# Altium footprint library QFN50P900X900X100_HS-65N.PcbLib: 1 footprints
Each footprint in its own frame and in the unit in brackets; x right, y up, seen from the top. Pads: shape width x height; smd on the part's side, far side on the other; paste and mask are expansions set on the pad; w line width, h text height; cw(c..) or ccw(c..) is an arc to the next point about the centre after c.
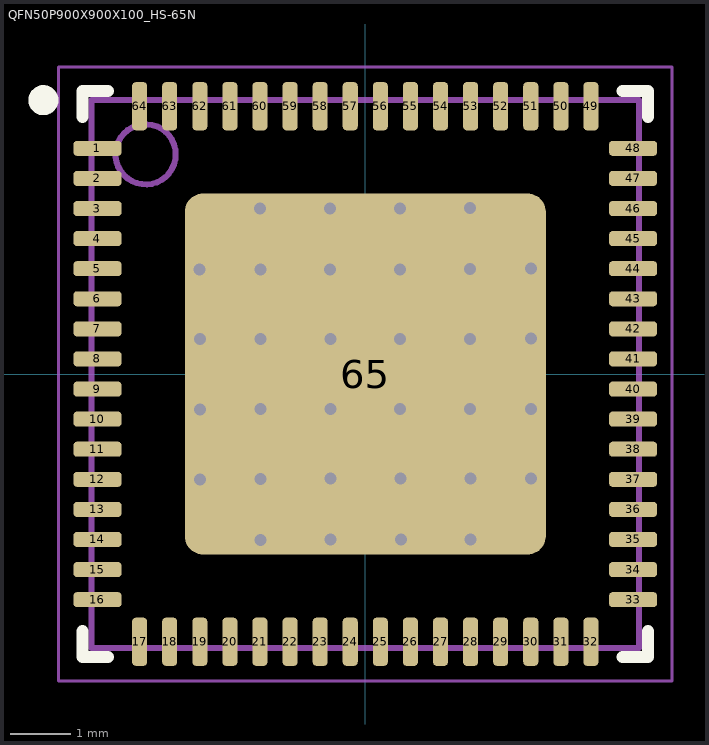
[diagram p0: the footprint, top view; thin cyan lines are the x and y axes]

## QFN50P900X900X100_HS-65N [mm] "QFN, 64-Leads, Body 9,00x9,00mm, Pitch 0,50mm, Thermal Pad 7,74x2,20mm, IPC Medium Density"
height 1
pads (65):
  rrect50% 0.8x0.25 smd paste-0.02 mask+0.03: 1(-4.45,3.75) 2(-4.45,3.25) 3(-4.45,2.75) 4(-4.45,2.25) 5(-4.45,1.75) 6(-4.45,1.25) 7(-4.45,0.75) 8(-4.45,0.25) 9(-4.45,-0.25) 10(-4.45,-0.75) 11(-4.45,-1.25) 12(-4.45,-1.75) 13(-4.45,-2.25) 14(-4.45,-2.75) 15(-4.45,-3.25) 16(-4.45,-3.75) 33(4.45,-3.75) 34(4.45,-3.25) 35(4.45,-2.75) 36(4.45,-2.25) 37(4.45,-1.75) 38(4.45,-1.25) 39(4.45,-0.75) 40(4.45,-0.25) 41(4.45,0.25) 42(4.45,0.75) 43(4.45,1.25) 44(4.45,1.75) 45(4.45,2.25) 46(4.45,2.75) 47(4.45,3.25) 48(4.45,3.75)
  rrect50% 0.25x0.8 smd paste-0.02 mask+0.03: 17(-3.75,-4.45) 18(-3.25,-4.45) 19(-2.75,-4.45) 20(-2.25,-4.45) 21(-1.75,-4.45) 22(-1.25,-4.45) 23(-0.75,-4.45) 24(-0.25,-4.45) 25(0.25,-4.45) 26(0.75,-4.45) 27(1.25,-4.45) 28(1.75,-4.45) 29(2.25,-4.45) 30(2.75,-4.45) 31(3.25,-4.45) 32(3.75,-4.45) 49(3.75,4.45) 50(3.25,4.45) 51(2.75,4.45) 52(2.25,4.45) 53(1.75,4.45) 54(1.25,4.45) 55(0.75,4.45) 56(0.25,4.45) 57(-0.25,4.45) 58(-0.75,4.45) 59(-1.25,4.45) 60(-1.75,4.45) 61(-2.25,4.45) 62(-2.75,4.45) 63(-3.25,4.45) 64(-3.75,4.45)
  rrect10% 6x6 smd paste-10 mask+0.03: 65(0,0)
via -1.75,2.75 diameter 0.4 hole 0.2
via -0.59,2.75 diameter 0.4 hole 0.2
via -2.755,1.74 diameter 0.4 hole 0.2
via -1.745,1.74 diameter 0.4 hole 0.2
via -0.585,1.74 diameter 0.4 hole 0.2
via -2.75,0.58 diameter 0.4 hole 0.2
via -1.74,0.58 diameter 0.4 hole 0.2
via -0.58,0.58 diameter 0.4 hole 0.2
via 1.75,-2.75 diameter 0.4 hole 0.2
via 0.59,-2.75 diameter 0.4 hole 0.2
via 2.755,-1.74 diameter 0.4 hole 0.2
via 1.745,-1.74 diameter 0.4 hole 0.2
via 0.585,-1.74 diameter 0.4 hole 0.2
via 2.75,-0.58 diameter 0.4 hole 0.2
via 1.74,-0.58 diameter 0.4 hole 0.2
via 0.58,-0.58 diameter 0.4 hole 0.2
via -2.75,-1.75 diameter 0.4 hole 0.2
via -2.75,-0.59 diameter 0.4 hole 0.2
via -1.74,-2.755 diameter 0.4 hole 0.2
via -1.74,-1.745 diameter 0.4 hole 0.2
via -1.74,-0.585 diameter 0.4 hole 0.2
via -0.58,-2.75 diameter 0.4 hole 0.2
via -0.58,-1.74 diameter 0.4 hole 0.2
via -0.58,-0.58 diameter 0.4 hole 0.2
via 0.58,0.58 diameter 0.4 hole 0.2
via 0.58,1.74 diameter 0.4 hole 0.2
via 0.58,2.75 diameter 0.4 hole 0.2
via 1.74,0.585 diameter 0.4 hole 0.2
via 1.74,1.745 diameter 0.4 hole 0.2
via 1.74,2.755 diameter 0.4 hole 0.2
via 2.75,0.59 diameter 0.4 hole 0.2
via 2.75,1.75 diameter 0.4 hole 0.2
Top Overlay:
  circle w0.25: c-5.35,4.55 r0.125
  lines w0.2: -4.7,-4.275 -4.7,-4.7 -4.275,-4.7 ; -4.7,4.275 -4.7,4.7 -4.275,4.7 ; 4.275,-4.7 4.7,-4.7 4.7,-4.275 ; 4.275,4.7 4.7,4.7 4.7,4.275
Top Paste:
  rectangle: -0.48,-0.48 0.48,0.48
  rectangle: 0.68,-0.48 1.64,0.48
  rectangle: 1.84,-0.455 2.8,0.505
  region: -0.68,0.48 -1.64,0.48 -1.64,-0.48 -0.68,-0.48
  region: -1.84,0.455 -2.8,0.455 -2.8,-0.505 -1.84,-0.505
  region: -0.48,-0.68 -0.48,-1.64 0.48,-1.64 0.48,-0.68
  region: -0.455,-1.84 -0.455,-2.8 0.505,-2.8 0.505,-1.84
  region: -1.63,-0.68 -1.63,-1.64 -0.67,-1.64 -0.67,-0.68
  region: -1.605,-1.84 -1.605,-2.8 -0.645,-2.8 -0.645,-1.84
  region: -2.805,-0.705 -2.805,-1.665 -1.845,-1.665 -1.845,-0.705
  region: -2.78,-1.865 -2.78,-2.825 -1.82,-2.825 -1.82,-1.865
  region: 0.695,-0.68 0.695,-1.64 1.655,-1.64 1.655,-0.68
  region: 0.72,-1.84 0.72,-2.8 1.68,-2.8 1.68,-1.84
  region: 1.845,-0.655 1.845,-1.615 2.805,-1.615 2.805,-0.655
  region: 1.87,-1.815 1.87,-2.775 2.83,-2.775 2.83,-1.815
  region: 0.48,0.68 0.48,1.64 -0.48,1.64 -0.48,0.68
  region: 0.455,1.84 0.455,2.8 -0.505,2.8 -0.505,1.84
  region: 1.63,0.68 1.63,1.64 0.67,1.64 0.67,0.68
  region: 1.605,1.84 1.605,2.8 0.645,2.8 0.645,1.84
  region: 2.805,0.705 2.805,1.665 1.845,1.665 1.845,0.705
  region: 2.78,1.865 2.78,2.825 1.82,2.825 1.82,1.865
  region: -0.695,0.68 -0.695,1.64 -1.655,1.64 -1.655,0.68
  region: -0.72,1.84 -0.72,2.8 -1.68,2.8 -1.68,1.84
  region: -1.845,0.655 -1.845,1.615 -2.805,1.615 -2.805,0.655
  region: -1.87,1.815 -1.87,2.775 -2.83,2.775 -2.83,1.815
Top Assembly:
  circle w0.1: c-3.65,3.65 r0.5
  lines w0.1: -4.55,-4.55 -4.55,4.55 4.55,4.55 4.55,-4.55 -4.55,-4.55
Top Courtyard:
  lines w0.05: -5.1,-5.1 -5.1,5.1 5.1,5.1 5.1,-5.1 -5.1,-5.1
  lines w0.1: -0.5,0 0.5,0 ; 0,-0.5 0,0.5
3D body: height 1, standoff 0, extent -4.55,-4.55 4.55,4.55